# Altium integrated library Speedometer.IntLib: 56 symbols
Pins are listed as number, name and electrical type; pins without a type are passive.

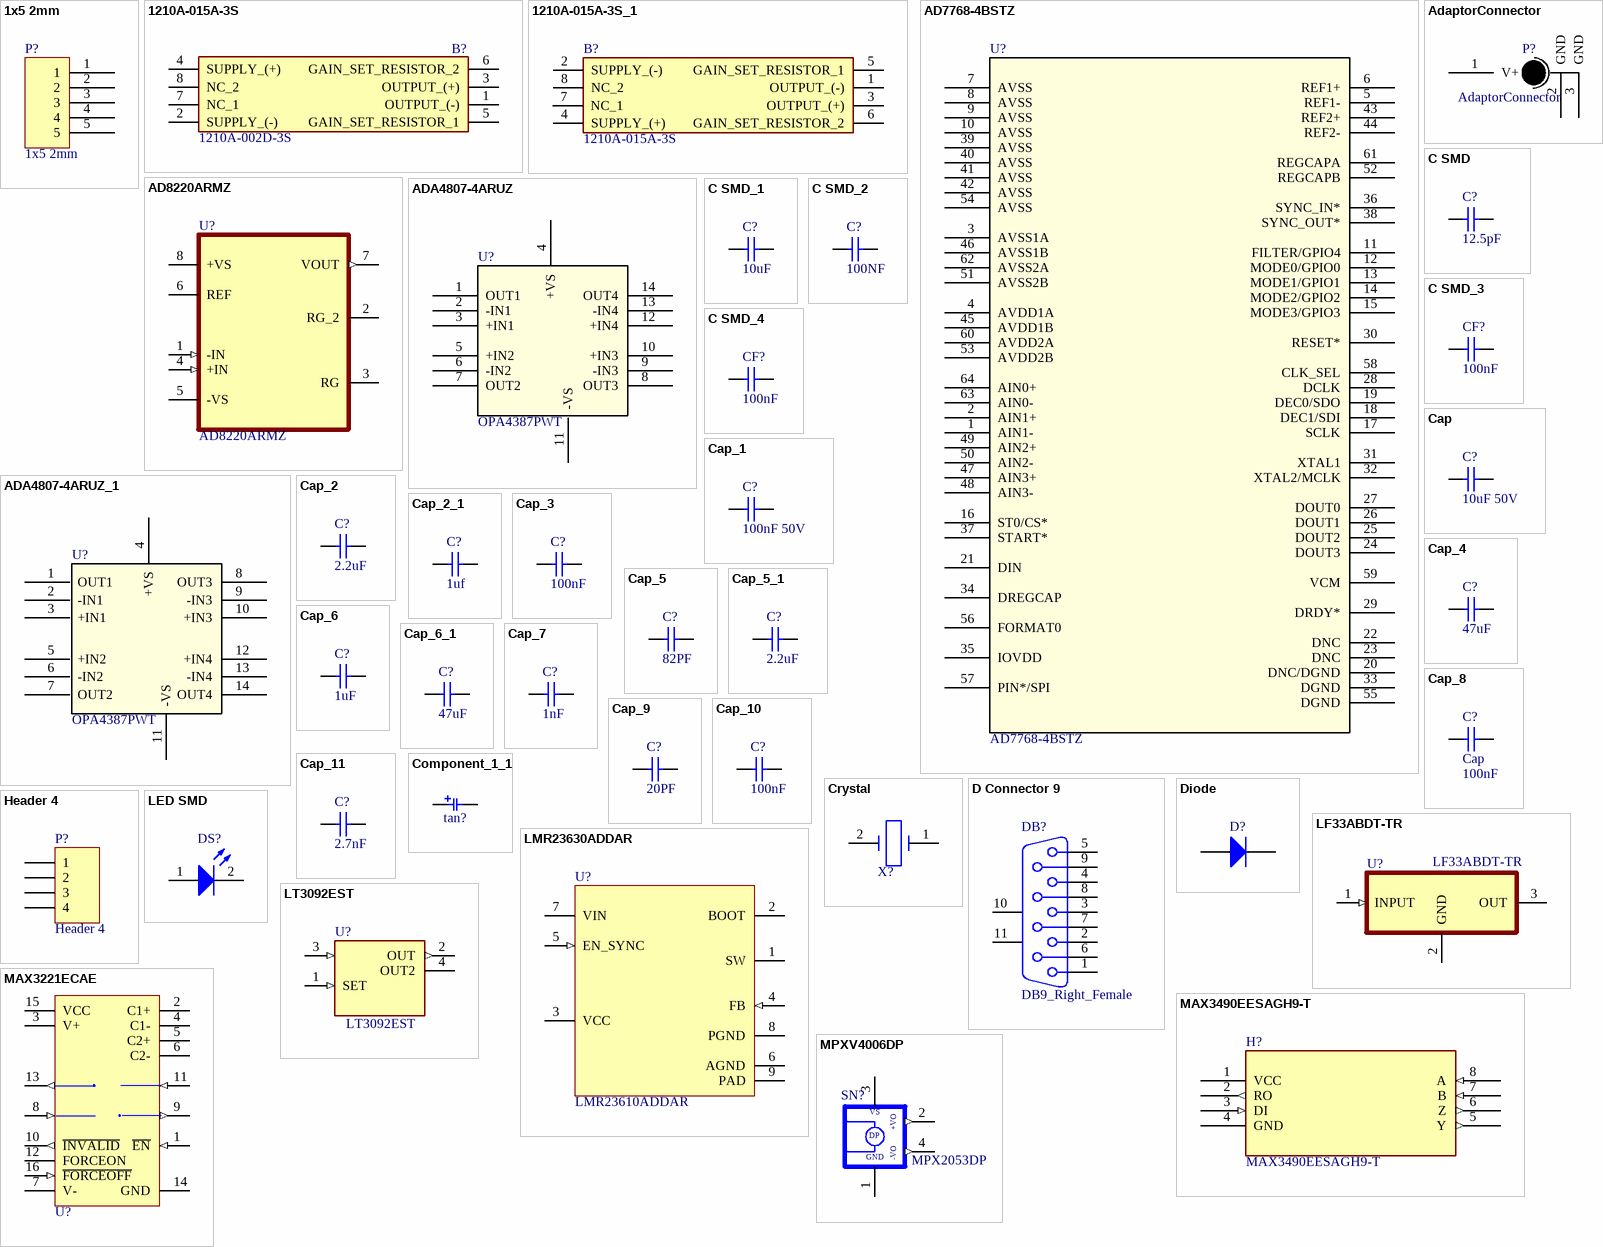
[diagram p0: symbols 1x5 2mm to MPXV4006DP]

## 1x5 2mm
designator P?
footprint 1x5 2mm-No3D
footprint 1x5 2mm
footprint 1x5 2mm - right
footprint 1x5 2mm-No3D
pins: 1 (power), 2, 3, 4 (power), 5

## 1210A-015A-3S
designator B?, comment 1210A-002D-3S
Board Mount Pressure Sensors 0-15psia 0-100mV Short Port; Manufacturer_Name: TE Connectivity; Manufacturer_Part_Number: 1210A-015A-3S; Geometry.Height: 12.81mm; Mouser Part Number: 824-1210A-015A-3S; Mouser Price/Stock: https://www.mouser.com/Search/Refine.aspx?Keyword=824-1210A-015A-3S; Datasheet Link: https://componentsearchengine.com/Datasheets/1/1210A-015A-3S.pdf
footprint DIP1524W46P254L1524H1281Q8N
pins: 1 OUTPUT_(-), 2 SUPPLY_(-), 3 OUTPUT_(+), 4 SUPPLY_(+), 5 GAIN_SET_RESISTOR_1, 6 GAIN_SET_RESISTOR_2, 7 NC_1, 8 NC_2

## 1210A-015A-3S_1
designator B?, comment 1210A-015A-3S
Board Mount Pressure Sensors 0-15psia 0-100mV Short Port; Manufacturer_Name: TE Connectivity; Geometry.Height: 12.81mm; Mouser Part Number: 824-1210A-015A-3S; Mouser Price/Stock: https://www.mouser.com/Search/Refine.aspx?Keyword=824-1210A-015A-3S; Manufacturer_Part_Number: 1210A-015A-3S; Datasheet Link: https://componentsearchengine.com/Datasheets/1/1210A-015A-3S.pdf
footprint DIP1524W46P254L1524H1281Q8N
pins: 1 OUTPUT_(-), 2 SUPPLY_(-), 3 OUTPUT_(+), 4 SUPPLY_(+), 5 GAIN_SET_RESISTOR_1, 6 GAIN_SET_RESISTOR_2, 7 NC_1, 8 NC_2

## AD7768-4BSTZ
designator U?
No Description Available; Mfr_Name: Analog Devices Inc; Copyright: Copyright (C) 2023 Ultra Librarian. All rights reserved.; Manufacturer_Part_Number: AD7768-4BSTZ; RefDes: RefDes; Type: DEV
footprint ST_64_2_ADI
pins: 1 AIN1-, 2 AIN1+, 3 AVSS1A, 4 AVDD1A, 5 REF1-, 6 REF1+, 7 AVSS, 8 AVSS, 9 AVSS, 10 AVSS, 11 FILTER/GPIO4, 12 MODE0/GPIO0, 13 MODE1/GPIO1, 14 MODE2/GPIO2, 15 MODE3/GPIO3, 16 ST0/CS*, 17 SCLK, 18 DEC1/SDI, 19 DEC0/SDO, 20 DNC/DGND, 21 DIN, 22 DNC, 23 DNC, 24 DOUT3, 25 DOUT2, 26 DOUT1, 27 DOUT0, 28 DCLK, 29 DRDY*, 30 RESET*, 31 XTAL1, 32 XTAL2/MCLK, 33 DGND, 34 DREGCAP, 35 IOVDD, 36 SYNC_IN*, 37 START*, 38 SYNC_OUT*, 39 AVSS, 40 AVSS, 41 AVSS, 42 AVSS, 43 REF2+, 44 REF2-, 45 AVDD1B, 46 AVSS1B, 47 AIN3+, 48 AIN3-, 49 AIN2+, 50 AIN2-, 51 AVSS2B, 52 REGCAPB, 53 AVDD2B, 54 AVSS, 55 DGND, 56 FORMAT0, 57 PIN*/SPI, 58 CLK_SEL, 59 VCM, 60 AVDD2A, 61 REGCAPA, 62 AVSS2A, 63 AIN0-, 64 AIN0+

## AD8220ARMZ
designator U?
Ð£ÑÐ¸Ð»Ð¸Ñ‚ÐµÐ»ÑŒ Ð¸Ð½ÑÑ‚Ñ€ÑƒÐ¼ÐµÐ½Ñ‚Ð¾Ð²ÐºÐ¸ 1 Ð¦ÐµÐ¿ÑŒ Rail-to-Rail 8-MSOP; MF: Analog Devices; SnapEDA_Link: https://www.snapeda.com/parts/AD8220ARMZ/Analog%20Devices%20Inc./view-part/210707/?ref=snap; Availability: Unavailable; MP: AD8220ARMZ; Package: MSOP-8 Analog Devices; Price: None; Value: *
footprint SOP65P490X110-8N
pins: 1 -IN (in), 2 RG_2, 3 RG, 4 +IN (in), 5 -VS (power), 6 REF, 7 VOUT (out), 8 +VS (power)

## ADA4807-4ARUZ
designator U?, comment OPA4387PWT
No Description Available; Mfr_Name: Analog Devices Inc; Manufacturer_Part_Number: ADA4807-4ARUZ; Copyright: Copyright (C) 2023 Ultra Librarian. All rights reserved.; RefDes: RefDes; Type: DEV
footprint ADA4807-4ARUZ_ADI
footprint ADA4807-4ARUZ_ADI
pins: 1 OUT1, 2 -IN1, 3 +IN1, 4 +VS, 5 +IN2, 6 -IN2, 7 OUT2, 8 OUT3, 9 -IN3, 10 +IN3, 11 -VS, 12 +IN4, 13 -IN4, 14 OUT4

## ADA4807-4ARUZ_1
designator U?, comment OPA4387PWT
No Description Available; Mfr_Name: Analog Devices Inc; Manufacturer_Part_Number: ADA4807-4ARUZ; Copyright: Copyright (C) 2023 Ultra Librarian. All rights reserved.; RefDes: RefDes; Type: DEV
footprint ADA4807-4ARUZ_ADI
pins: 1 OUT1, 2 -IN1, 3 +IN1, 4 +VS, 5 +IN2, 6 -IN2, 7 OUT2, 8 OUT3, 9 -IN3, 10 +IN3, 11 -VS, 12 +IN4, 13 -IN4, 14 OUT4

## AdaptorConnector
designator P?
footprint AdaptorConnector
footprint AdaptorConnector
pins: 1 V+, 2 GND, 3 GND

## C SMD
designator C?, comment 12.5pF
Ceramic Chip Capacitor - Standard; Note: Footprint corresponds to dimensions for bulk cassette packaging. This case size has tightened tolerances.; Published: 17-Jul-2002; LatestRevisionDate: 19-Mar-2004; LatestRevisionNote: Silkscreen size reduced.; DatasheetDocument: Mar-2001; PackageDocument: Mar-2001; PackageReference: 0603; Publisher: Altium Limited; Code_JEITA: 0603; Code_IPC: 1608 [0603]; ComponentLink1Description: Manufacturer Link; ComponentLink1URL: http://www.kemet.com/; ComponentLink2Description: Datasheet; ComponentLink2URL: http://www.kemet.com/kemet/web/homepage/kechome.nsf/vapubfilesname/F3102TA.pdf/$file/F3102TA.pdf; Value: 12.5pF
footprint C0402E (CHIP Capacitor, 1.0X0.5mm, 0402, EXPANDED PAD)
simulation model CAP (Capacitor)
signal-integrity model C0603
footprint C SMD 0805 (Chip Resistor; Body 1.6 x 0.8 mm (LxW typ))
footprint C SMD 1206 (Chip Capacitor; Body 3.2 x 1.6 mm (LxW typ))
footprint C SMD 0603-No3D (Chip Capacitor; Body 1.6 x 0.8 mm (LxW typ))
footprint C SMD 0805-No3D (Chip Resistor; Body 1.6 x 0.8 mm (LxW typ))
footprint C SMD 1206-No3D (Chip Capacitor; Body 3.2 x 1.6 mm (LxW typ))
footprint C SMD 0402
footprint C SMD 0402-No3D
footprint C SMD 1210 (Chip Capacitor; Body 3.2 x 1.6 mm (LxW typ))
footprint C SMD 1210-No3D (Chip Capacitor; Body 3.2 x 1.6 mm (LxW typ))
pins: 1, 2

## C SMD_1
designator C?, comment value 10uF  (hidden comment: C SMD 0603)
Ceramic Chip Capacitor - Standard; Note: Footprint corresponds to dimensions for bulk cassette packaging. This case size has tightened tolerances.; Published: 17-Jul-2002; LatestRevisionDate: 19-Mar-2004; LatestRevisionNote: Silkscreen size reduced.; DatasheetDocument: Mar-2001; PackageDocument: Mar-2001; PackageReference: 0603; Publisher: Altium Limited; Code_JEITA: 0603; Code_IPC: 1608 [0603]; ComponentLink1Description: Manufacturer Link; ComponentLink1URL: http://www.kemet.com/; ComponentLink2Description: Datasheet; ComponentLink2URL: http://www.kemet.com/kemet/web/homepage/kechome.nsf/vapubfilesname/F3102TA.pdf/$file/F3102TA.pdf
footprint C0603O (CHIP Capacitor, 1.6X0.8mm, 0603 OPTIMIZED)
simulation model CAP (Capacitor)
signal-integrity model C0603
footprint C SMD 0805 (Chip Resistor; Body 1.6 x 0.8 mm (LxW typ))
footprint C SMD 1206 (Chip Capacitor; Body 3.2 x 1.6 mm (LxW typ))
footprint C SMD 0603-No3D (Chip Capacitor; Body 1.6 x 0.8 mm (LxW typ))
footprint C SMD 0805-No3D (Chip Resistor; Body 1.6 x 0.8 mm (LxW typ))
footprint C SMD 1206-No3D (Chip Capacitor; Body 3.2 x 1.6 mm (LxW typ))
footprint C SMD 0402
footprint C SMD 0402-No3D
pins: 1, 2

## C SMD_2
designator C?, comment value 100NF  (hidden comment: C SMD 0603)
Ceramic Chip Capacitor - Standard; Note: Footprint corresponds to dimensions for bulk cassette packaging. This case size has tightened tolerances.; Published: 17-Jul-2002; LatestRevisionDate: 19-Mar-2004; LatestRevisionNote: Silkscreen size reduced.; DatasheetDocument: Mar-2001; PackageDocument: Mar-2001; PackageReference: 0603; Publisher: Altium Limited; Code_JEITA: 0603; Code_IPC: 1608 [0603]; ComponentLink1Description: Manufacturer Link; ComponentLink1URL: http://www.kemet.com/; ComponentLink2Description: Datasheet; ComponentLink2URL: http://www.kemet.com/kemet/web/homepage/kechome.nsf/vapubfilesname/F3102TA.pdf/$file/F3102TA.pdf
footprint C0402E (CHIP Capacitor, 1.0X0.5mm, 0402, EXPANDED PAD)
simulation model CAP (Capacitor)
signal-integrity model C0603
footprint C SMD 0805 (Chip Resistor; Body 1.6 x 0.8 mm (LxW typ))
footprint C SMD 1206 (Chip Capacitor; Body 3.2 x 1.6 mm (LxW typ))
footprint C SMD 0603-No3D (Chip Capacitor; Body 1.6 x 0.8 mm (LxW typ))
footprint C SMD 0805-No3D (Chip Resistor; Body 1.6 x 0.8 mm (LxW typ))
footprint C SMD 1206-No3D (Chip Capacitor; Body 3.2 x 1.6 mm (LxW typ))
footprint C SMD 0402
footprint C SMD 0402-No3D
pins: 1, 2

## C SMD_3
designator CF?, comment 100nF
Ceramic Chip Capacitor - Standard; Note: Footprint corresponds to dimensions for bulk cassette packaging. This case size has tightened tolerances.; Published: 17-Jul-2002; LatestRevisionDate: 19-Mar-2004; LatestRevisionNote: Silkscreen size reduced.; DatasheetDocument: Mar-2001; PackageDocument: Mar-2001; PackageReference: 0603; Publisher: Altium Limited; Code_JEITA: 0603; Code_IPC: 1608 [0603]; ComponentLink1Description: Manufacturer Link; ComponentLink1URL: http://www.kemet.com/; ComponentLink2Description: Datasheet; ComponentLink2URL: http://www.kemet.com/kemet/web/homepage/kechome.nsf/vapubfilesname/F3102TA.pdf/$file/F3102TA.pdf; Value: 100nF
footprint C SMD 0603 (Chip Capacitor; Body 1.6 x 0.8 mm (LxW typ))
simulation model CAP (Capacitor)
signal-integrity model C0603
footprint C SMD 0805 (Chip Resistor; Body 1.6 x 0.8 mm (LxW typ))
footprint C SMD 1206 (Chip Capacitor; Body 3.2 x 1.6 mm (LxW typ))
footprint C SMD 0603-No3D (Chip Capacitor; Body 1.6 x 0.8 mm (LxW typ))
footprint C SMD 0805-No3D (Chip Resistor; Body 1.6 x 0.8 mm (LxW typ))
footprint C SMD 1206-No3D (Chip Capacitor; Body 3.2 x 1.6 mm (LxW typ))
footprint C SMD 0402
footprint C SMD 0402-No3D
footprint C0805 (Chip Capacitor, Body 2.0x1.3mm, IPC High Density)
pins: 1, 2

## C SMD_4
designator CF?, comment 100nF
Ceramic Chip Capacitor - Standard; Note: Footprint corresponds to dimensions for bulk cassette packaging. This case size has tightened tolerances.; Published: 17-Jul-2002; LatestRevisionDate: 19-Mar-2004; LatestRevisionNote: Silkscreen size reduced.; DatasheetDocument: Mar-2001; PackageDocument: Mar-2001; PackageReference: 0603; Publisher: Altium Limited; Code_JEITA: 0603; Code_IPC: 1608 [0603]; ComponentLink1Description: Manufacturer Link; ComponentLink1URL: http://www.kemet.com/; ComponentLink2Description: Datasheet; ComponentLink2URL: http://www.kemet.com/kemet/web/homepage/kechome.nsf/vapubfilesname/F3102TA.pdf/$file/F3102TA.pdf; Value: 100nF
footprint C SMD 0603 (Chip Capacitor; Body 1.6 x 0.8 mm (LxW typ))
simulation model CAP (Capacitor)
signal-integrity model C0603
footprint C SMD 0805 (Chip Resistor; Body 1.6 x 0.8 mm (LxW typ))
footprint C SMD 1206 (Chip Capacitor; Body 3.2 x 1.6 mm (LxW typ))
footprint C SMD 0603-No3D (Chip Capacitor; Body 1.6 x 0.8 mm (LxW typ))
footprint C SMD 0805-No3D (Chip Resistor; Body 1.6 x 0.8 mm (LxW typ))
footprint C SMD 1206-No3D (Chip Capacitor; Body 3.2 x 1.6 mm (LxW typ))
footprint C SMD 0402
footprint C SMD 0402-No3D
footprint C0805 (Chip Capacitor, Body 2.0x1.3mm, IPC High Density)
pins: 1, 2

## Cap
designator C?  value 10uF 50V  (hidden comment: Cap)
Capacitor; Published: 8-Jun-2000; LatestRevisionDate: 17-Jul-2002; LatestRevisionNote: Re-released for DXP Platform.; PackageReference: RAD-0.3; Publisher: Altium Limited; PackageDescription: Radial Cap, Thru-Hole; 2 Leads; 0.3 in Pin Spacing
footprint RAD-0.3 (Radial Cap, Thru-Hole; 2 Leads; 0.3 in Pin Spacing)
simulation model CAP (Capacitor)
signal-integrity model Cap
footprint 6-0805_N (Chip Resistor, Body 2.0x1.2mm, IPC Medium Density)
footprint C0805
footprint C0805
pins: 1, 2

## Cap_1
designator C?, comment value 100nF 50V  (hidden comment: Cap)
Capacitor; Published: 8-Jun-2000; LatestRevisionDate: 17-Jul-2002; LatestRevisionNote: Re-released for DXP Platform.; PackageReference: RAD-0.3; Publisher: Altium Limited; PackageDescription: Radial Cap, Thru-Hole; 2 Leads; 0.3 in Pin Spacing
footprint RAD-0.3 (Radial Cap, Thru-Hole; 2 Leads; 0.3 in Pin Spacing)
simulation model CAP (Capacitor)
signal-integrity model Cap
footprint 6-0805_N (Chip Resistor, Body 2.0x1.2mm, IPC Medium Density)
pins: 1, 2

## Cap_2
designator C?, comment value 2.2uF  (hidden comment: Cap)
Capacitor; Published: 8-Jun-2000; LatestRevisionDate: 17-Jul-2002; LatestRevisionNote: Re-released for DXP Platform.; PackageReference: RAD-0.3; Publisher: Altium Limited; PackageDescription: Radial Cap, Thru-Hole; 2 Leads; 0.3 in Pin Spacing
footprint RAD-0.3 (Radial Cap, Thru-Hole; 2 Leads; 0.3 in Pin Spacing)
simulation model CAP (Capacitor)
signal-integrity model Cap
footprint 6-0805_N (Chip Resistor, Body 2.0x1.2mm, IPC Medium Density)
pins: 1, 2

## Cap_2_1
designator C?, comment value 1uf  (hidden comment: Cap)
Capacitor; Published: 8-Jun-2000; LatestRevisionDate: 17-Jul-2002; LatestRevisionNote: Re-released for DXP Platform.; PackageReference: RAD-0.3; Publisher: Altium Limited; PackageDescription: Radial Cap, Thru-Hole; 2 Leads; 0.3 in Pin Spacing
footprint RAD-0.3 (Radial Cap, Thru-Hole; 2 Leads; 0.3 in Pin Spacing)
simulation model CAP (Capacitor)
signal-integrity model Cap
footprint 6-0805_N (Chip Resistor, Body 2.0x1.2mm, IPC Medium Density)
footprint 0603 (Chip Inductor, Body 0.6x0.3mm, IPC High Density)
footprint PCBComponent_1
footprint PCBComponent_1
footprint C0805
pins: 1, 2

## Cap_3
designator C?, comment value 100nF  (hidden comment: Cap)
Capacitor; Published: 8-Jun-2000; LatestRevisionDate: 17-Jul-2002; LatestRevisionNote: Re-released for DXP Platform.; PackageReference: RAD-0.3; Publisher: Altium Limited; PackageDescription: Radial Cap, Thru-Hole; 2 Leads; 0.3 in Pin Spacing
footprint RAD-0.3 (Radial Cap, Thru-Hole; 2 Leads; 0.3 in Pin Spacing)
simulation model CAP (Capacitor)
signal-integrity model Cap
footprint 6-0805_N (Chip Resistor, Body 2.0x1.2mm, IPC Medium Density)
pins: 1, 2

## Cap_4
designator C?, comment value 47uF  (hidden comment: Cap)
Capacitor; Published: 8-Jun-2000; LatestRevisionDate: 17-Jul-2002; LatestRevisionNote: Re-released for DXP Platform.; PackageReference: RAD-0.3; Publisher: Altium Limited; PackageDescription: Radial Cap, Thru-Hole; 2 Leads; 0.3 in Pin Spacing
footprint RAD-0.3 (Radial Cap, Thru-Hole; 2 Leads; 0.3 in Pin Spacing)
simulation model CAP (Capacitor)
signal-integrity model Cap
footprint 6-0805_N (Chip Resistor, Body 2.0x1.2mm, IPC Medium Density)
pins: 1, 2

## Cap_5
designator C?, comment value 82PF  (hidden comment: Cap)
Capacitor; Published: 8-Jun-2000; LatestRevisionDate: 17-Jul-2002; LatestRevisionNote: Re-released for DXP Platform.; PackageReference: RAD-0.3; Publisher: Altium Limited; PackageDescription: Radial Cap, Thru-Hole; 2 Leads; 0.3 in Pin Spacing
footprint RAD-0.3 (Radial Cap, Thru-Hole; 2 Leads; 0.3 in Pin Spacing)
simulation model CAP (Capacitor)
signal-integrity model Cap
footprint 6-0805_N (Chip Resistor, Body 2.0x1.2mm, IPC Medium Density)
pins: 1, 2

## Cap_5_1
designator C?, comment value 2.2uF  (hidden comment: Cap)
Capacitor; Published: 8-Jun-2000; LatestRevisionDate: 17-Jul-2002; LatestRevisionNote: Re-released for DXP Platform.; PackageReference: RAD-0.3; Publisher: Altium Limited; PackageDescription: Radial Cap, Thru-Hole; 2 Leads; 0.3 in Pin Spacing
footprint RAD-0.3 (Radial Cap, Thru-Hole; 2 Leads; 0.3 in Pin Spacing)
simulation model CAP (Capacitor)
signal-integrity model Cap
footprint 6-0805_N (Chip Resistor, Body 2.0x1.2mm, IPC Medium Density)
footprint C0805
pins: 1, 2

## Cap_6
designator C?, comment value 1uF  (hidden comment: Cap)
Capacitor; Published: 8-Jun-2000; LatestRevisionDate: 17-Jul-2002; LatestRevisionNote: Re-released for DXP Platform.; PackageReference: RAD-0.3; Publisher: Altium Limited; PackageDescription: Radial Cap, Thru-Hole; 2 Leads; 0.3 in Pin Spacing
footprint RAD-0.3 (Radial Cap, Thru-Hole; 2 Leads; 0.3 in Pin Spacing)
simulation model CAP (Capacitor)
signal-integrity model Cap
footprint 6-0805_N (Chip Resistor, Body 2.0x1.2mm, IPC Medium Density)
pins: 1, 2

## Cap_6_1
designator C?, comment value 47uF  (hidden comment: Cap)
Capacitor; Published: 8-Jun-2000; LatestRevisionDate: 17-Jul-2002; LatestRevisionNote: Re-released for DXP Platform.; PackageReference: RAD-0.3; Publisher: Altium Limited; PackageDescription: Radial Cap, Thru-Hole; 2 Leads; 0.3 in Pin Spacing
footprint RAD-0.3 (Radial Cap, Thru-Hole; 2 Leads; 0.3 in Pin Spacing)
simulation model CAP (Capacitor)
signal-integrity model Cap
footprint 6-0805_N (Chip Resistor, Body 2.0x1.2mm, IPC Medium Density)
footprint C0805
pins: 1, 2

## Cap_7
designator C?, comment value 1nF  (hidden comment: Cap)
Capacitor; Published: 8-Jun-2000; LatestRevisionDate: 17-Jul-2002; LatestRevisionNote: Re-released for DXP Platform.; PackageReference: RAD-0.3; Publisher: Altium Limited; PackageDescription: Radial Cap, Thru-Hole; 2 Leads; 0.3 in Pin Spacing
footprint RAD-0.3 (Radial Cap, Thru-Hole; 2 Leads; 0.3 in Pin Spacing)
simulation model CAP (Capacitor)
signal-integrity model Cap
footprint 6-0805_N (Chip Resistor, Body 2.0x1.2mm, IPC Medium Density)
pins: 1, 2

## Cap_8
designator C?, comment Cap  value 100nF
Capacitor; Published: 8-Jun-2000; LatestRevisionDate: 17-Jul-2002; LatestRevisionNote: Re-released for DXP Platform.; PackageReference: RAD-0.3; Publisher: Altium Limited; PackageDescription: Radial Cap, Thru-Hole; 2 Leads; 0.3 in Pin Spacing
footprint RAD-0.3 (Radial Cap, Thru-Hole; 2 Leads; 0.3 in Pin Spacing)
simulation model CAP (Capacitor)
signal-integrity model Cap
footprint 6-0805_N (Chip Resistor, Body 2.0x1.2mm, IPC Medium Density)
footprint C0805
pins: 1, 2

## Cap_9
designator C?, comment value 20PF  (hidden comment: Cap)
Capacitor; Published: 8-Jun-2000; LatestRevisionDate: 17-Jul-2002; LatestRevisionNote: Re-released for DXP Platform.; PackageReference: RAD-0.3; Publisher: Altium Limited; PackageDescription: Radial Cap, Thru-Hole; 2 Leads; 0.3 in Pin Spacing
footprint RAD-0.3 (Radial Cap, Thru-Hole; 2 Leads; 0.3 in Pin Spacing)
simulation model CAP (Capacitor)
signal-integrity model Cap
footprint 6-0805_N (Chip Resistor, Body 2.0x1.2mm, IPC Medium Density)
footprint 0603 (Chip Inductor, Body 0.6x0.3mm, IPC High Density)
footprint PCBComponent_1
footprint PCBComponent_1
footprint C0805
pins: 1, 2

## Cap_10
designator C?  value 100nF
Capacitor; Published: 8-Jun-2000; LatestRevisionDate: 17-Jul-2002; LatestRevisionNote: Re-released for DXP Platform.; PackageReference: RAD-0.3; Publisher: Altium Limited; PackageDescription: Radial Cap, Thru-Hole; 2 Leads; 0.3 in Pin Spacing
footprint RAD-0.3 (Radial Cap, Thru-Hole; 2 Leads; 0.3 in Pin Spacing)
simulation model CAP (Capacitor)
signal-integrity model Cap
footprint 6-0805_N (Chip Resistor, Body 2.0x1.2mm, IPC Medium Density)
pins: 1, 2

## Cap_11
designator C?  value 2.7nF
Capacitor; Published: 8-Jun-2000; LatestRevisionDate: 17-Jul-2002; LatestRevisionNote: Re-released for DXP Platform.; PackageReference: RAD-0.3; Publisher: Altium Limited; PackageDescription: Radial Cap, Thru-Hole; 2 Leads; 0.3 in Pin Spacing
footprint RAD-0.3 (Radial Cap, Thru-Hole; 2 Leads; 0.3 in Pin Spacing)
simulation model CAP (Capacitor)
signal-integrity model Cap
footprint 6-0805_N (Chip Resistor, Body 2.0x1.2mm, IPC Medium Density)
pins: 1, 2

## Component_1_1
designator tan?, comment Component_1  (value not drawn)
footprint PCBComponent_1
pins: 1, 2

## Crystal
designator X?, comment 32.768MHz  (value not drawn)
footprint Crystal3225
pins: 1, 2

## D Connector 9
designator DB?, comment DB9_Right_Female
Receptacle Assembly, 9 Position, Right Angle; PackageDocument: O; Positions: 9; Published: 15-Jun-2001; LatestRevisionDate: 17-Jul-2002; LatestRevisionNote: Re-released for DXP Platform.; DatasheetDocument: 1-Sep-1999; PackageReference: 788750; Publisher: Altium Limited; Orientation: Right Angle; Gender: Receptacle
footprint DB9 Right (Connector; D Subminiature; 9 Position; Right Angle; Pitch 1.385 mm)
signal-integrity model Connector
footprint DB9 Vertical (DB9; 9 Position; Vertical; Pitch 2.77 mm)
footprint DB9 Right - male (Connector; D Subminiature; 9 Position; Right Angle; Pitch 1.385 mm)
footprint DB9 Vertical - male (DB9; 9 Position; Vertical; Pitch 2.77 mm)
footprint PCBComponent_1
footprint PCBComponent_1
pins: 1, 2, 3, 4, 5, 6, 7, 8, 9, 10 MH1, 11 MH2

## Diode
designator D?  (value not drawn)
AF: 1; BV: 0; BV_MAX: 1e99; EG: 1.11; FC: 0.5; IBV: 0.001; ISR: 1e-14; MJSW: 0.33; NTUN: 30; TNOM: 27; XTI: 3; SimulationGenericComponent: True; CJO: 0; CJP: 0; CTA: 0; CTP: 0; FCS: 0.5; FV_MAX: 1e99; IKF: 0; IKR: 0; JSW: 0; JTUN: 0; JTUNSW: 0; KEG: 1; KF: 0; LEVEL: 1; N: 1; NBV: 1; NR: 1; NS: 1; PHP: 1; RS: 0; TCV: 0; TLEV: 0; TLEVC: 0; TM1: 0; TM2: 0; TPB: 0; TPHP: 0; TRS: 0; TRS2: 0; TT: 0; TTT1: 0; TTT2: 0; VJ: 1; XTITUN: 3; IS: 1e-14
simulation model diode (Diodes)
pins: 1 A, 2 K

## Header 4
designator P?
Header, 4-Pin; LatestRevisionDate: 17-Jul-2002; LatestRevisionNote: Re-released for DXP Platform.; Publisher: Altium Limited
footprint HDR1X4 (Connector; Header; 4 Position)
signal-integrity model Connector
footprint HDR1X4
pins: 1, 2, 3, 4

## LED SMD
designator DS?
footprint LED SMD 0805 - Geeen (Chip Resistor; Body 1.6 x 0.8 mm (LxW typ))
footprint LED SMD 0805 - Red (Chip Resistor; Body 1.6 x 0.8 mm (LxW typ))
footprint LED SMD 0805 - White (Chip Resistor; Body 1.6 x 0.8 mm (LxW typ))
footprint LED SMD 0805 - Yellow (Chip Resistor; Body 1.6 x 0.8 mm (LxW typ))
footprint LED SMD 0603 - Geeen (Chip Resistor; Body 1.6 x 0.8 mm (LxW typ))
footprint LED SMD 0603 - Red (Chip Resistor; Body 1.6 x 0.8 mm (LxW typ))
footprint LED SMD 0603 - White (Chip Resistor; Body 1.6 x 0.8 mm (LxW typ))
footprint LED SMD 0603 - Yellow (Chip Resistor; Body 1.6 x 0.8 mm (LxW typ))
footprint LED SMD 0805 - Geeen
pins: 1 A, 2 K

## LF33ABDT-TR
designator U?
Linear Voltage Regulator IC 1 Output 500mA DPAK; MF: STMicroelectronics; SnapEDA_Link: https://www.snapeda.com/parts/LF33ABDT-TR/STMicroelectronics/view-part/281804/?ref=snap; Availability: Unavailable; Price: None; Package: TO-252 STMicroelectronics; Value: *; MP: LF33ABDT-TR
footprint TO228P972X240-3N
footprint TO228P972X240-3N
pins: 1 INPUT (in), 2 GND, 3 OUT

## LMR23630ADDAR
designator U?  PackageReference: LMR23610ADDAR  (hidden comment: LMR23630ADDAR)
Manufacturer Name: Texas Instruments; Manufacturer Part Number: LMR23630ADDAR; Value: N/A
footprint PCBComponent_1
pins: 1 SW (power), 2 BOOT (power), 3 VCC (power), 4 FB (in), 5 EN_SYNC (in), 6 AGND (power), 7 VIN (power), 8 PGND (power), 9 PAD (power)

## LT3092EST
designator U?
Current & Power Monitors & Regulators 200mA Two Terminal Programmable Current Source; MF: Analog Devices Inc.; Check_prices: https://www.snapeda.com/parts/LT3092EST/Analog+Devices/view-part/?ref=eda; SnapEDA_Link: https://www.snapeda.com/parts/LT3092EST/Analog+Devices/view-part/?ref=snap; Price: None; MP: LT3092EST; Value: *; Availability: In Stock; Package: None; Purchase-URL: https://pricing.snapeda.com/search/part/LT3092EST/?ref=eda
footprint IC_LT3092EST
pins: 1 SET (in), 2 OUT (out), 3 IN (in), 4 OUT2 "2"

## MAX3221ECAE
designator U?  (value not drawn)
±15kV ESD-Protected, 1µA, 3.0V/5.5V, 250kbps, RS-232 Transceiver with AutoShutdown; Published: 16-Jan-2001; LatestRevisionDate: 29-May-2009; LatestRevisionNote: IPC-7351 Footprint Added.; DatasheetVersion: Jan-1998; PackageVersion: 1996; PackageReference: SSOP16; Publisher: Altium Limited; PackageDescription: 16-Pin Small Outline Package 0.65 mm Pitch; Code_JEDEC: MO-150-AC; Code_IPC: SOP65P780-16; ComponentLink1Description: Manufacturer Link; ComponentLink1URL: http://www.maxim-ic.com/; ComponentLink2Description: Datasheet; ComponentLink2URL: http://pdfserv.maxim-ic.com/en/ds/MAX3221E-MAX3243E.pdf
footprint PCBComponent_1
pins: 1 ~{EN} (in), 2 C1+, 3 V+ (power), 4 C1-, 5 C2+, 6 C2-, 7 V- (power), 8 R1IN (in), 9 R1OUT (out), 10 ~{INVALID} (out), 11 T1IN (in), 12 FORCEON, 13 T1OUT (out), 14 GND (power), 15 VCC (power), 16 ~{FORCEOFF} (in)

## MAX3490EESAGH9-T
designator H?
RS-422/RS-485 Interface IC 3.3V Powered, 15kV ESD-Protected, 12Mbps, Slew-Rate-Limited True RS-485/RS-422 Transceivers; MF: Analog Devices; MP: MAX3490EESA/GH9-T; SnapEDA_Link: https://www.snapeda.com/parts/MAX3490EESA/GH9-T/Analog+Devices/view-part/?ref=snap; Package: None; Value: *; Check_prices: https://www.snapeda.com/parts/MAX3490EESA/GH9-T/Analog+Devices/view-part/?ref=eda
footprint 21-0041B_8
pins: 1 VCC (power), 2 RO (out), 3 DI (in), 4 GND (power), 5 Y (out), 6 Z (out), 7 B (in), 8 A (in)

## MPXV4006DP
designator SN?, comment MPX2053DP
Pressure Sensor 0.87PSI _6kPa_ Differential Male - 0.13 _3.3mm_ Tube, Dual 0.2 V ~ 4.7 V 8-BSOP _0.475, 12.06mm Width_ Dual Ports, Same Side; MP: MPXV4006DP; MF: NXP USA; Availability: Unavailable; Price: None; SnapEDA_Link: https://www.snapeda.com/parts/MPXV4006DP/NXP%20USA%20Inc./view-part/797022/?ref=snap; Package: - NXP USA; Value: *
footprint SOP8-1351
pins: 1 GND (power), 2 +VOUT (out), 3 VS (power), 4 -VOUT (out)
text: +VO; DP; -VO

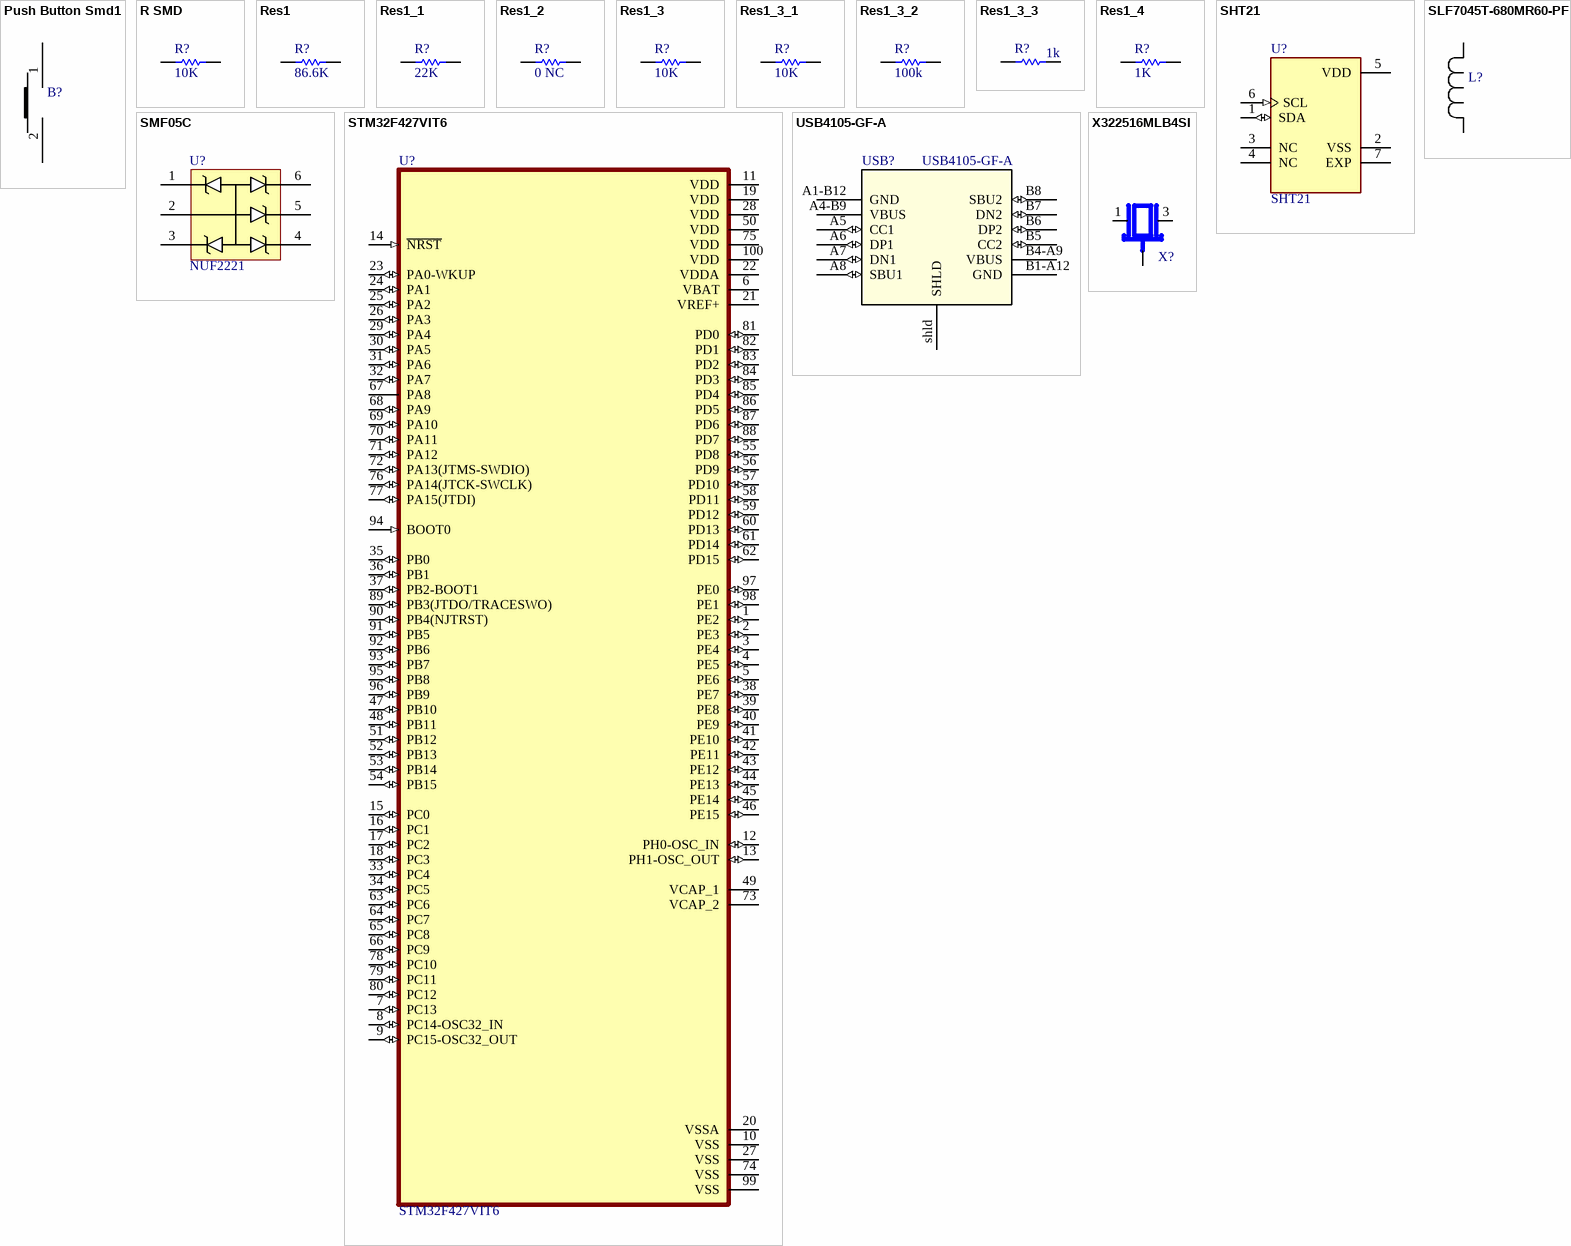
[diagram p1: symbols Push Button Smd1 to X322516MLB4SI]

## Push Button Smd1
designator B?  (value not drawn)
footprint PCBComponent_1
pins: 1, 2

## R SMD
designator R?, comment 10K
Metal Film Thermosensitive Chip Resistor, 0.56 Ohm to 10k Ohm Range, 5% Tolerance, 0805 Size, 0.1 W; Note: If flow soldering, adjust pad width of PCB Footprint to 0.7 - 0.8 times the width of the resistor.; Published: 17-Dec-2003; LatestRevisionDate: 19-Mar-2004; LatestRevisionNote: Silkscreen size reduced.; PackageReference: ERA-0805; Publisher: Altium Limited; PackageDocument: Mar-2003; Code_IPC: 2012 [0805]; ComponentLink1Description: Manufacturer Link; ComponentLink1URL: http://www.panasonic.com/industrial/components/resistive_products.htm; ComponentLink2Description: Datasheet; ComponentLink2URL: http://www.panasonic.com/industrial/components/pdf/AOF0000CE1.pdf; value: 10K
footprint R SMD 0805 (Chip Resistor; Body 1.6 x 0.8 mm (LxW typ))
simulation model RESISTOR (Resistor)
signal-integrity model Res
footprint R SMD 0603 (Chip Capacitor; Body 1.6 x 0.8 mm (LxW typ))
footprint R SMD 0603-No3D (Chip Capacitor; Body 1.6 x 0.8 mm (LxW typ))
footprint R SMD 0805-No3D (Chip Resistor; Body 1.6 x 0.8 mm (LxW typ))
footprint R SMD 1206 (Chip Resistor; Body 3.2 x 1.6 mm (LxW typ))
footprint R SMD 1206-No3D (Chip Resistor; Body 3.2 x 1.6 mm (LxW typ))
footprint 0402RM (CHIP Resistor 1/16 WATT, 1.0X0.5mm, 0402, 1005)
footprint R SMD 0402-No3D
footprint R SMD 2512 (Chip Resistor, Length (mm) = 6.3mm, Width (mm) = 3.1mm, Height (mm) = 0.6mm, Watts = 0.5)
footprint R SMD 1210 (Chip Resistor; Body 3.2 x 1.6 mm (LxW typ))
pins: 1, 2

## Res1
designator R?  value 86.6K  (hidden comment: Res1)
Resistor; Published: 8-Jun-2000; LatestRevisionDate: 17-Jul-2002; LatestRevisionNote: Re-released for DXP Platform.; PackageReference: AXIAL-0.3; Publisher: Altium Limited; PackageDescription: Axial Device, Thru-Hole; 2 Leads; 0.3 in Pin Spacing
footprint AXIAL-0.3 (Axial Device, Thru-Hole; 2 Leads; 0.3 in Pin Spacing)
simulation model RESISTOR (Resistor)
signal-integrity model Res
footprint 6-0805_N (Chip Resistor, Body 2.0x1.2mm, IPC Medium Density)
pins: 1, 2

## Res1_1
designator R?, comment value 22K  (hidden comment: Res1)
Resistor; Published: 8-Jun-2000; LatestRevisionDate: 17-Jul-2002; LatestRevisionNote: Re-released for DXP Platform.; PackageReference: AXIAL-0.3; Publisher: Altium Limited; PackageDescription: Axial Device, Thru-Hole; 2 Leads; 0.3 in Pin Spacing
footprint AXIAL-0.3 (Axial Device, Thru-Hole; 2 Leads; 0.3 in Pin Spacing)
simulation model RESISTOR (Resistor)
signal-integrity model Res
footprint 6-0805_N (Chip Resistor, Body 2.0x1.2mm, IPC Medium Density)
pins: 1, 2

## Res1_2
designator R?, comment value 0 NC  (hidden comment: Res1)
Resistor; Published: 8-Jun-2000; LatestRevisionDate: 17-Jul-2002; LatestRevisionNote: Re-released for DXP Platform.; PackageReference: AXIAL-0.3; Publisher: Altium Limited; PackageDescription: Axial Device, Thru-Hole; 2 Leads; 0.3 in Pin Spacing
footprint AXIAL-0.3 (Axial Device, Thru-Hole; 2 Leads; 0.3 in Pin Spacing)
simulation model RESISTOR (Resistor)
signal-integrity model Res
footprint 6-0805_N (Chip Resistor, Body 2.0x1.2mm, IPC Medium Density)
pins: 1, 2

## Res1_3
designator R?, comment value 10K  (hidden comment: Res1)
Resistor; Published: 8-Jun-2000; LatestRevisionDate: 17-Jul-2002; LatestRevisionNote: Re-released for DXP Platform.; PackageReference: AXIAL-0.3; Publisher: Altium Limited; PackageDescription: Axial Device, Thru-Hole; 2 Leads; 0.3 in Pin Spacing
footprint AXIAL-0.3 (Axial Device, Thru-Hole; 2 Leads; 0.3 in Pin Spacing)
simulation model RESISTOR (Resistor)
signal-integrity model Res
footprint 6-0805_N (Chip Resistor, Body 2.0x1.2mm, IPC Medium Density)
pins: 1, 2

## Res1_3_1
designator R?, comment value 10K  (hidden comment: Res1)
Resistor; Published: 8-Jun-2000; LatestRevisionDate: 17-Jul-2002; LatestRevisionNote: Re-released for DXP Platform.; PackageReference: AXIAL-0.3; Publisher: Altium Limited; PackageDescription: Axial Device, Thru-Hole; 2 Leads; 0.3 in Pin Spacing
footprint AXIAL-0.3 (Axial Device, Thru-Hole; 2 Leads; 0.3 in Pin Spacing)
simulation model RESISTOR (Resistor)
signal-integrity model Res
footprint 6-0805_N (Chip Resistor, Body 2.0x1.2mm, IPC Medium Density)
pins: 1, 2

## Res1_3_2
designator R?, comment value 100k  (hidden comment: Res1)
Resistor; Published: 8-Jun-2000; LatestRevisionDate: 17-Jul-2002; LatestRevisionNote: Re-released for DXP Platform.; PackageReference: AXIAL-0.3; Publisher: Altium Limited; PackageDescription: Axial Device, Thru-Hole; 2 Leads; 0.3 in Pin Spacing
footprint AXIAL-0.3 (Axial Device, Thru-Hole; 2 Leads; 0.3 in Pin Spacing)
simulation model RESISTOR (Resistor)
signal-integrity model Res
footprint 6-0805_N (Chip Resistor, Body 2.0x1.2mm, IPC Medium Density)
pins: 1, 2

## Res1_3_3
designator R?, comment value 1k  (hidden comment: Res1)
Resistor; Published: 8-Jun-2000; LatestRevisionDate: 17-Jul-2002; LatestRevisionNote: Re-released for DXP Platform.; PackageReference: AXIAL-0.3; Publisher: Altium Limited; PackageDescription: Axial Device, Thru-Hole; 2 Leads; 0.3 in Pin Spacing
footprint AXIAL-0.3 (Axial Device, Thru-Hole; 2 Leads; 0.3 in Pin Spacing)
simulation model RESISTOR (Resistor)
signal-integrity model Res
footprint 6-0805_N (Chip Resistor, Body 2.0x1.2mm, IPC Medium Density)
pins: 1, 2

## Res1_4
designator R?, comment value 1K  (hidden comment: Res1)
Resistor; Published: 8-Jun-2000; LatestRevisionDate: 17-Jul-2002; LatestRevisionNote: Re-released for DXP Platform.; PackageReference: AXIAL-0.3; Publisher: Altium Limited; PackageDescription: Axial Device, Thru-Hole; 2 Leads; 0.3 in Pin Spacing
footprint AXIAL-0.3 (Axial Device, Thru-Hole; 2 Leads; 0.3 in Pin Spacing)
simulation model RESISTOR (Resistor)
signal-integrity model Res
footprint 6-0805_N (Chip Resistor, Body 2.0x1.2mm, IPC Medium Density)
pins: 1, 2

## SHT21
designator U?
SENSOR HUMID/TEMP 3V I2C 2% SMD; MF: Sensirion AG; SnapEDA_Link: https://www.snapeda.com/parts/SHT21/Sensirion+AG/view-part/?ref=snap; Package: DFN-6 Sensirion; Value: *; MP: SHT21; Check_prices: https://www.snapeda.com/parts/SHT21/Sensirion+AG/view-part/?ref=eda
footprint XDCR_SHT21
pins: 1 SDA (io), 2 VSS (power), 3 NC (hiz), 4 NC (hiz), 5 VDD (power), 6 SCL (in), 7 EXP

## SLF7045T-680MR60-PF
designator L?, comment SLF7045T-150M1R1-PF  (value not drawn)
No Description Available; Mfr_Name: TDK; Copyright: Copyright (C) 2022 Ultra Librarian. All rights reserved.; Manufacturer_Part_Number: SLF7045T-150M1R1-PF
footprint PCBComponent_1
pins: 1, 2

## SMF05C
designator U?, comment NUF2221
TVS Diode Array  For ESD and Latch-Up Protection; Note: Pins 1, 3, 7 and 8 are not connected; Pin 4 is connected to case; Published: 8-Jun-2000; LatestRevisionDate: 13-Apr-2006; LatestRevisionNote: IPC-7351 Footprint Added.; DatasheetVersion: REV. B 1992; PackageVersion: revA; PackageReference: SO-8; Publisher: Altium Limited; PackageDescription: 8-Pin Small Outline Integrated Circuit 1.27 mm Pitch; Code_JEDEC: MS-012-AA; Code_IPC: SOIC127P600-8; ComponentLink1Description: Manufacturer Link; ComponentLink1URL: http://www.analog.com/en/prod/0%2C2877%2CREF01%2C00.html; ComponentLink2Description: Datasheet; ComponentLink2URL: http://www.analog.com/UploadedFiles/Data_Sheets/400769540REF01_g.pdf
footprint SC70 6L
pins: 1, 2 (power), 3, 4, 5, 6

## STM32F427VIT6
designator U?
ARMÂ® CortexÂ®-M4 STM32F4 Microcontroller IC 32-Bit 180MHz 2MB (2M x 8) FLASH 100-LQFP (14x14); MF: STMicroelectronics; SnapEDA_Link: https://www.snapeda.com/parts/STM32F427VIT6/STMicroelectronics/view-part/225734/?ref=snap; Price: None; MP: STM32F427VIT6; Value: *; Availability: Unavailable; Package: LQFP-100 STMicroelectronics
footprint QFP50P1600X1600X160-100N
pins: 1 PE2 (io), 2 PE3 (io), 3 PE4 (io), 4 PE5 (io), 5 PE6 (io), 6 VBAT (power), 7 PC13 (io), 8 PC14-OSC32_IN (io), 9 PC15-OSC32_OUT (io), 10 VSS (power), 11 VDD (power), 12 PH0-OSC_IN (io), 13 PH1-OSC_OUT (io), 14 ~{NRST} (in), 15 PC0 (io), 16 PC1 (io), 17 PC2 (io), 18 PC3 (io), 19 VDD (power), 20 VSSA (power), 21 VREF+ (power), 22 VDDA (power), 23 PA0-WKUP (io), 24 PA1 (io), 25 PA2 (io), 26 PA3 (io), 27 VSS (power), 28 VDD (power), 29 PA4 (io), 30 PA5 (io), 31 PA6 (io), 32 PA7 (io), 33 PC4 (io), 34 PC5 (io), 35 PB0 (io), 36 PB1 (io), 37 PB2-BOOT1 (io), 38 PE7 (io), 39 PE8 (io), 40 PE9 (io), 41 PE10 (io), 42 PE11 (io), 43 PE12 (io), 44 PE13 (io), 45 PE14 (io), 46 PE15 (io), 47 PB10 (io), 48 PB11 (io), 49 VCAP_1, 50 VDD (power), 51 PB12 (io), 52 PB13 (io), 53 PB14 (io), 54 PB15 (io), 55 PD8 (io), 56 PD9 (io), 57 PD10 (io), 58 PD11 (io), 59 PD12 (io), 60 PD13 (io), 61 PD14 (io), 62 PD15 (io), 63 PC6 (io), 64 PC7 (io), 65 PC8 (io), 66 PC9 (io), 67 PA8, 68 PA9 (io), 69 PA10 (io), 70 PA11 (io), 71 PA12 (io), 72 PA13(JTMS-SWDIO) (io), 73 VCAP_2, 74 VSS (power), 75 VDD (power), 76 PA14(JTCK-SWCLK) (io), 77 PA15(JTDI) (io), 78 PC10 (io), 79 PC11 (io), 80 PC12 (io), 81 PD0 (io), 82 PD1 (io), 83 PD2 (io), 84 PD3 (io), 85 PD4 (io), 86 PD5 (io), 87 PD6 (io), 88 PD7 (io), 89 PB3(JTDO/TRACESWO) (io), 90 PB4(NJTRST) (io), 91 PB5 (io), 92 PB6 (io), 93 PB7 (io), 94 BOOT0 (in), 95 PB8 (io), 96 PB9 (io), 97 PE0 (io), 98 PE1 (io), 99 VSS (power), 100 VDD (power)

## USB4105-GF-A
designator USB?
No Description Available; Mfr_Name: Global Connector Technology; Copyright: Copyright (C) 2023 Ultra Librarian. All rights reserved.; Manufacturer_Part_Number: USB4105-GF-A; RefDes: RefDes; Type: DEV
footprint USB4105_GCT
pins: A1-B12 GND, A4-B9 VBUS (power), A5 CC1 (io), A6 DP1 (io), A7 DN1 (io), A8 SBU1 (io), B1-A12 GND, B4-A9 VBUS (power), B5 CC2 (io), B6 DP2 (io), B7 DN2 (io), B8 SBU2 (io), shld SHLD

## X322516MLB4SI
designator X?
External dimensions: 3.2 x 2.5 x 0.8 mm.Frequency range: 11.0592MHz ~54MHz; MP: X322516MLB4SI; MF: YXC; Availability: Unavailable; Package: Package; SnapEDA_Link: https://www.snapeda.com/parts/X322516MLB4SI/YXC/view-part/4703090/?ref=snap; Check_prices: https://www.snapeda.com/parts/X322516MLB4SI/YXC/view-part/4703090/?ref=eda; Value: *; Price: None
footprint OSC_X322516MLB4SI
footprint OSC_X322516MLB4SI
pins: 1, 2 GND (power), 3, 4 GND (power)